# Altium integrated library Linear Technology Power Management System Supervisor, Monitor and Control.IntLib: 1611 symbols (part 99 of 100)
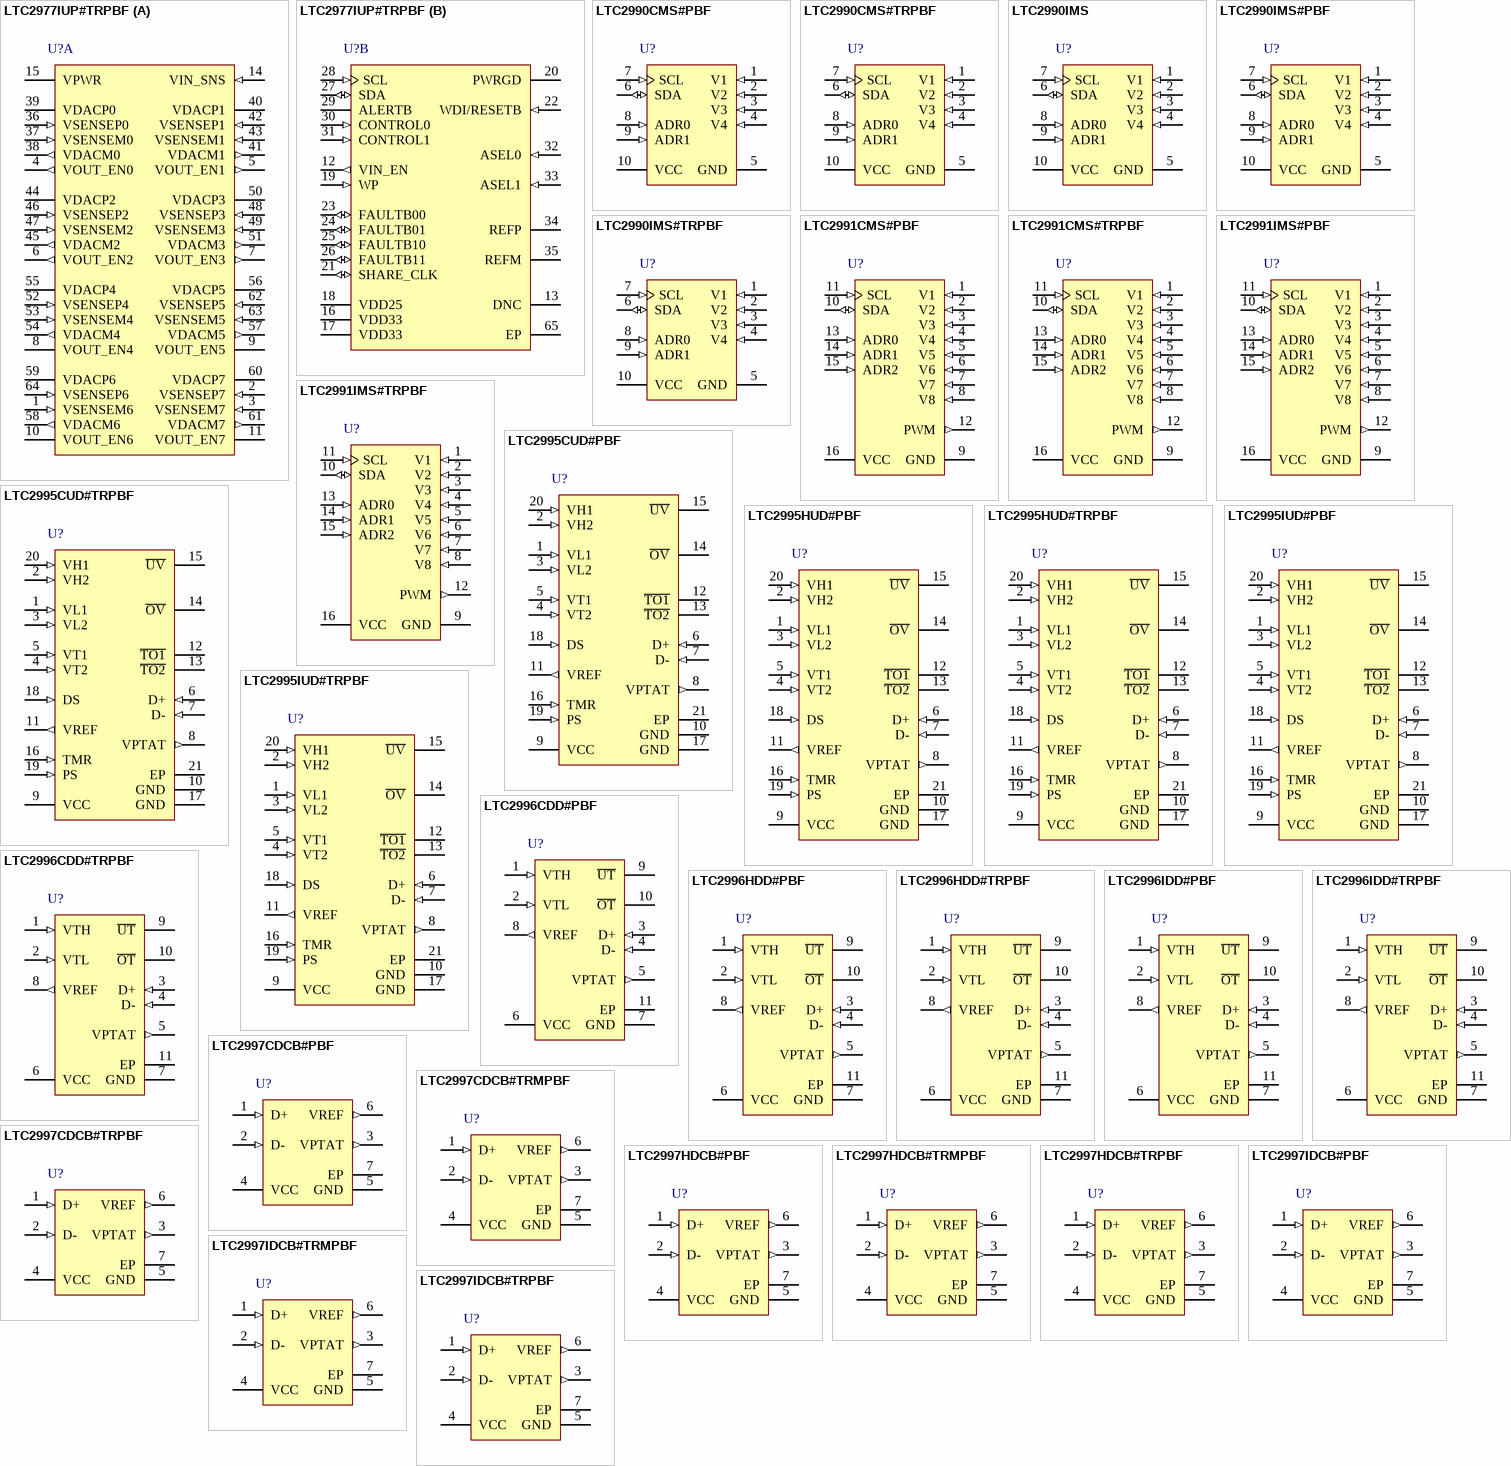
[diagram p143: symbols LTC2977IUP#TRPBF to LTC2997IDCB#TRPBF]

## LTC2995HUD#TRPBF
designator U?
Temperature Sensor and Dual Voltage Monitor with Alert Outputs, 20-pin QFN (UD-20), -40 to 125 degC, Pb-Free, Tape and Reel; Manufacturer: Linear Technology; PartNumber: LTC2995HUD#TRPBF; Number of Supplies(#): 2; PackageVersion: Rev. A, 06/2010; PackageReference: UD-20; PackageDescription: 20-Pin Plastic QFN, Body 3 x 3 mm, Pitch 0.4 mm; Supplier 1: Digi-Key; Supplier Part Number 1: LTC2995HUD#TRPBF-ND; Packing: Tape and Reel; RoHS: TRUE; Mounting Technology: Surface Mount; ComponentLink1Description: Manufacturer URL; ComponentLink1URL: http://www.linear.com/; ComponentLink2Description: Datasheet; ComponentLink2URL: http://cds.linear.com/docs/en/datasheet/2995f.pdf; ComponentLink3Description: Package Specification; ComponentLink3URL: http://cds.linear.com/docs/en/packaging/QFN_20_05-08-1720.pdf
footprint LT-UD-20_N (QFN, 20-Leads, Body 3.1x3.1mm, Pitch 0.4mm, Thermal Pad 1.65x1.65mm, IPC Medium Density)
footprint LT-UD-20_L (QFN, 20-Leads, Body 3.1x3.1mm, Pitch 0.4mm, Thermal Pad 1.65x1.65mm, IPC High Density)
footprint LT-UD-20_M (QFN, 20-Leads, Body 3.1x3.1mm, Pitch 0.4mm, Thermal Pad 1.65x1.65mm, IPC Low Density)
pins: 1 VL1 (in) "Voltage Low Inputs 1 and 2. When the voltage on either pin is above 0.5V, an overvoltage condition is triggered. Tie pin to GND if unused.", 2 VH2 (in) "Voltage High Inputs 1 and 2. When the voltage on either pin is below 0.5V, an undervoltage condition is triggered. Tie pin to VCC if unused.", 3 VL2 (in) "Voltage Low Inputs 1 and 2. When the voltage on either pin is above 0.5V, an overvoltage condition is triggered. Tie pin to GND if unused.", 4 VT2 (in) "Temperature Threshold 2. When VPTAT crosses the voltage on VT2 with a polarity set by the PS pin, T\O\2 is pulled low. Tie VT2 to VCC if unused.", 5 VT1 (in) "Temperature Threshold 1. When VPTAT crosses the voltage on VT1 with a polarity set by the PS pin, T\O\1\ is pulled low. Tie VT1 to GND if unused.", 6 D+ (in) "Diode Sense Current Source. D+ sources the remote diode sensing current. Connect D+ to the anode of the remote sensor device. It is recommended to connect a 470pF bypass capacitor between D+ and D-. Larger capacitors may (See Datasheet)", 7 D- (in) "Diode Sense Current Sink. Connect D- to the cathode of the remote sensor device. Tie D- to GND for single wire remote temperature measurement (see Applications Information) or internal temperature sensing.", 8 VPTAT (out) "Proportional to Absolute Temperature Voltage Output. The voltage on this pin is proportional to the selected sensor absolute temperature. An internal or external sensor is chosen with the DS pin. VPTAT can drive up t(See Datasheet)", 9 VCC (power) "Supply Voltage. Bypass this pin to GND with a 0.1uF (or greater) capacitor. VCC operating range is 2.25V to 5.5V.", 10 GND (power) "Device Ground", 11 VREF (out) "Voltage Reference Output. VREF provides a 1.8V reference voltage. VREF can drive up to +/-200uA of load current and up to 1000pF of capacitive load. For larger load capacitances insert 1kohm between VREF and the load to (See Datasheet)", 12 ~{TO1} (oc) "Temperature Logic Output 1. Open drain logic output that pulls to GND when VPTAT crosses the threshold voltage on pin VT1 with a polarity set by the PS pin (see Table 3 in Applications Information). When VPTAT crosses the (See Datasheet)", 13 ~{TO2} (oc) "Temperature Logic Output 2. Open drain logic output that pulls to GND when VPTAT crosses the threshold voltage on pin VT2 with a polarity set by the PS pin (see Table 3 in Applications Information). When VPTAT crosses the (See Datasheet)", 14 ~{OV} (oc) "Overvoltage Logic Output. Open drain logic output that pulls to GND when either the voltage at VL1 or VL2 is above 0.5V. Held low for a programmable delay time set by the capacitor connected to pin TMR. O\V\ has a weak 400 (See Datasheet)", 15 ~{UV} (oc) "Undervoltage Logic Output. Open drain logic output that pulls to GND when either the voltage at VH1 or VH2 is below 0.5V. Held low for an adjustable delay time set by the capacitor connected to pin TMR. UV has a weak 400 (See Datasheet)", 16 TMR (in) "Reset Delay Timer. Attach an external capacitor (CTMR) to GND to set the delay time until alerts on T\O\1\, T\O\2\, U\V\ and O\V\ are reset. Leaving the pin open generates a minimum delay of 500us. Capacitance on this pin (See Datasheet)", 17 GND (power) "Device Ground", 18 DS (in) "Diode Select Input. Three state pin that selects temperature sensor location. Tie DS to VCC to monitor the temperature of the internal diode or to GND to monitor the temperature of the external diode. When DS is left (See Datasheet)", 19 PS (in) "Polarity Select Input. Selects the polarity of temperature thresholds VT1 and VT2. Connect PS to VCC to configure VT1 as undertemperature and VT2 as overtemperature threshold. Leave PS unconnected to configure both VT1 and (See Datasheet)", 20 VH1 (in) "Voltage High Inputs 1 and 2. When the voltage on either pin is below 0.5V, an undervoltage condition is triggered. Tie pin to VCC if unused.", 21 EP (power) "Exposed pad may be left open or soldered to GND for better thermal coupling."

## LTC2995IUD#PBF
designator U?
Temperature Sensor and Dual Voltage Monitor with Alert Outputs, 20-pin QFN (UD-20), -40 to 85 degC, Pb-Free; Manufacturer: Linear Technology; PartNumber: LTC2995IUD#PBF; Number of Supplies(#): 2; PackageVersion: Rev. A, 06/2010; PackageReference: UD-20; PackageDescription: 20-Pin Plastic QFN, Body 3 x 3 mm, Pitch 0.4 mm; Supplier 1: Digi-Key; Supplier Part Number 1: LTC2995IUD#PBF-ND; Supplier 2: Farnell; Supplier Part Number 2: 2115940; Supplier 3: Newark; Supplier Part Number 3: 94T1241; RoHS: TRUE; Mounting Technology: Surface Mount; ComponentLink1Description: Manufacturer URL; ComponentLink1URL: http://www.linear.com/; ComponentLink2Description: Datasheet; ComponentLink2URL: http://cds.linear.com/docs/en/datasheet/2995f.pdf; ComponentLink3Description: Package Specification; ComponentLink3URL: http://cds.linear.com/docs/en/packaging/QFN_20_05-08-1720.pdf
footprint LT-UD-20_N (QFN, 20-Leads, Body 3.1x3.1mm, Pitch 0.4mm, Thermal Pad 1.65x1.65mm, IPC Medium Density)
footprint LT-UD-20_L (QFN, 20-Leads, Body 3.1x3.1mm, Pitch 0.4mm, Thermal Pad 1.65x1.65mm, IPC High Density)
footprint LT-UD-20_M (QFN, 20-Leads, Body 3.1x3.1mm, Pitch 0.4mm, Thermal Pad 1.65x1.65mm, IPC Low Density)
pins: 1 VL1 (in) "Voltage Low Inputs 1 and 2. When the voltage on either pin is above 0.5V, an overvoltage condition is triggered. Tie pin to GND if unused.", 2 VH2 (in) "Voltage High Inputs 1 and 2. When the voltage on either pin is below 0.5V, an undervoltage condition is triggered. Tie pin to VCC if unused.", 3 VL2 (in) "Voltage Low Inputs 1 and 2. When the voltage on either pin is above 0.5V, an overvoltage condition is triggered. Tie pin to GND if unused.", 4 VT2 (in) "Temperature Threshold 2. When VPTAT crosses the voltage on VT2 with a polarity set by the PS pin, T\O\2 is pulled low. Tie VT2 to VCC if unused.", 5 VT1 (in) "Temperature Threshold 1. When VPTAT crosses the voltage on VT1 with a polarity set by the PS pin, T\O\1\ is pulled low. Tie VT1 to GND if unused.", 6 D+ (in) "Diode Sense Current Source. D+ sources the remote diode sensing current. Connect D+ to the anode of the remote sensor device. It is recommended to connect a 470pF bypass capacitor between D+ and D-. Larger capacitors may (See Datasheet)", 7 D- (in) "Diode Sense Current Sink. Connect D- to the cathode of the remote sensor device. Tie D- to GND for single wire remote temperature measurement (see Applications Information) or internal temperature sensing.", 8 VPTAT (out) "Proportional to Absolute Temperature Voltage Output. The voltage on this pin is proportional to the selected sensor absolute temperature. An internal or external sensor is chosen with the DS pin. VPTAT can drive up t(See Datasheet)", 9 VCC (power) "Supply Voltage. Bypass this pin to GND with a 0.1uF (or greater) capacitor. VCC operating range is 2.25V to 5.5V.", 10 GND (power) "Device Ground", 11 VREF (out) "Voltage Reference Output. VREF provides a 1.8V reference voltage. VREF can drive up to +/-200uA of load current and up to 1000pF of capacitive load. For larger load capacitances insert 1kohm between VREF and the load to (See Datasheet)", 12 ~{TO1} (oc) "Temperature Logic Output 1. Open drain logic output that pulls to GND when VPTAT crosses the threshold voltage on pin VT1 with a polarity set by the PS pin (see Table 3 in Applications Information). When VPTAT crosses the (See Datasheet)", 13 ~{TO2} (oc) "Temperature Logic Output 2. Open drain logic output that pulls to GND when VPTAT crosses the threshold voltage on pin VT2 with a polarity set by the PS pin (see Table 3 in Applications Information). When VPTAT crosses the (See Datasheet)", 14 ~{OV} (oc) "Overvoltage Logic Output. Open drain logic output that pulls to GND when either the voltage at VL1 or VL2 is above 0.5V. Held low for a programmable delay time set by the capacitor connected to pin TMR. O\V\ has a weak 400 (See Datasheet)", 15 ~{UV} (oc) "Undervoltage Logic Output. Open drain logic output that pulls to GND when either the voltage at VH1 or VH2 is below 0.5V. Held low for an adjustable delay time set by the capacitor connected to pin TMR. UV has a weak 400 (See Datasheet)", 16 TMR (in) "Reset Delay Timer. Attach an external capacitor (CTMR) to GND to set the delay time until alerts on T\O\1\, T\O\2\, U\V\ and O\V\ are reset. Leaving the pin open generates a minimum delay of 500us. Capacitance on this pin (See Datasheet)", 17 GND (power) "Device Ground", 18 DS (in) "Diode Select Input. Three state pin that selects temperature sensor location. Tie DS to VCC to monitor the temperature of the internal diode or to GND to monitor the temperature of the external diode. When DS is left (See Datasheet)", 19 PS (in) "Polarity Select Input. Selects the polarity of temperature thresholds VT1 and VT2. Connect PS to VCC to configure VT1 as undertemperature and VT2 as overtemperature threshold. Leave PS unconnected to configure both VT1 and (See Datasheet)", 20 VH1 (in) "Voltage High Inputs 1 and 2. When the voltage on either pin is below 0.5V, an undervoltage condition is triggered. Tie pin to VCC if unused.", 21 EP (power) "Exposed pad may be left open or soldered to GND for better thermal coupling."

## LTC2995IUD#TRPBF
designator U?
Temperature Sensor and Dual Voltage Monitor with Alert Outputs, 20-pin QFN (UD-20), -40 to 85 degC, Pb-Free, Tape and Reel; Manufacturer: Linear Technology; PartNumber: LTC2995IUD#TRPBF; Number of Supplies(#): 2; PackageVersion: Rev. A, 06/2010; PackageReference: UD-20; PackageDescription: 20-Pin Plastic QFN, Body 3 x 3 mm, Pitch 0.4 mm; Supplier 1: Digi-Key; Supplier Part Number 1: LTC2995IUD#TRPBF-ND; Packing: Tape and Reel; RoHS: TRUE; Mounting Technology: Surface Mount; ComponentLink1Description: Manufacturer URL; ComponentLink1URL: http://www.linear.com/; ComponentLink2Description: Datasheet; ComponentLink2URL: http://cds.linear.com/docs/en/datasheet/2995f.pdf; ComponentLink3Description: Package Specification; ComponentLink3URL: http://cds.linear.com/docs/en/packaging/QFN_20_05-08-1720.pdf
footprint LT-UD-20_N (QFN, 20-Leads, Body 3.1x3.1mm, Pitch 0.4mm, Thermal Pad 1.65x1.65mm, IPC Medium Density)
footprint LT-UD-20_L (QFN, 20-Leads, Body 3.1x3.1mm, Pitch 0.4mm, Thermal Pad 1.65x1.65mm, IPC High Density)
footprint LT-UD-20_M (QFN, 20-Leads, Body 3.1x3.1mm, Pitch 0.4mm, Thermal Pad 1.65x1.65mm, IPC Low Density)
pins: 1 VL1 (in) "Voltage Low Inputs 1 and 2. When the voltage on either pin is above 0.5V, an overvoltage condition is triggered. Tie pin to GND if unused.", 2 VH2 (in) "Voltage High Inputs 1 and 2. When the voltage on either pin is below 0.5V, an undervoltage condition is triggered. Tie pin to VCC if unused.", 3 VL2 (in) "Voltage Low Inputs 1 and 2. When the voltage on either pin is above 0.5V, an overvoltage condition is triggered. Tie pin to GND if unused.", 4 VT2 (in) "Temperature Threshold 2. When VPTAT crosses the voltage on VT2 with a polarity set by the PS pin, T\O\2 is pulled low. Tie VT2 to VCC if unused.", 5 VT1 (in) "Temperature Threshold 1. When VPTAT crosses the voltage on VT1 with a polarity set by the PS pin, T\O\1\ is pulled low. Tie VT1 to GND if unused.", 6 D+ (in) "Diode Sense Current Source. D+ sources the remote diode sensing current. Connect D+ to the anode of the remote sensor device. It is recommended to connect a 470pF bypass capacitor between D+ and D-. Larger capacitors may (See Datasheet)", 7 D- (in) "Diode Sense Current Sink. Connect D- to the cathode of the remote sensor device. Tie D- to GND for single wire remote temperature measurement (see Applications Information) or internal temperature sensing.", 8 VPTAT (out) "Proportional to Absolute Temperature Voltage Output. The voltage on this pin is proportional to the selected sensor absolute temperature. An internal or external sensor is chosen with the DS pin. VPTAT can drive up t(See Datasheet)", 9 VCC (power) "Supply Voltage. Bypass this pin to GND with a 0.1uF (or greater) capacitor. VCC operating range is 2.25V to 5.5V.", 10 GND (power) "Device Ground", 11 VREF (out) "Voltage Reference Output. VREF provides a 1.8V reference voltage. VREF can drive up to +/-200uA of load current and up to 1000pF of capacitive load. For larger load capacitances insert 1kohm between VREF and the load to (See Datasheet)", 12 ~{TO1} (oc) "Temperature Logic Output 1. Open drain logic output that pulls to GND when VPTAT crosses the threshold voltage on pin VT1 with a polarity set by the PS pin (see Table 3 in Applications Information). When VPTAT crosses the (See Datasheet)", 13 ~{TO2} (oc) "Temperature Logic Output 2. Open drain logic output that pulls to GND when VPTAT crosses the threshold voltage on pin VT2 with a polarity set by the PS pin (see Table 3 in Applications Information). When VPTAT crosses the (See Datasheet)", 14 ~{OV} (oc) "Overvoltage Logic Output. Open drain logic output that pulls to GND when either the voltage at VL1 or VL2 is above 0.5V. Held low for a programmable delay time set by the capacitor connected to pin TMR. O\V\ has a weak 400 (See Datasheet)", 15 ~{UV} (oc) "Undervoltage Logic Output. Open drain logic output that pulls to GND when either the voltage at VH1 or VH2 is below 0.5V. Held low for an adjustable delay time set by the capacitor connected to pin TMR. UV has a weak 400 (See Datasheet)", 16 TMR (in) "Reset Delay Timer. Attach an external capacitor (CTMR) to GND to set the delay time until alerts on T\O\1\, T\O\2\, U\V\ and O\V\ are reset. Leaving the pin open generates a minimum delay of 500us. Capacitance on this pin (See Datasheet)", 17 GND (power) "Device Ground", 18 DS (in) "Diode Select Input. Three state pin that selects temperature sensor location. Tie DS to VCC to monitor the temperature of the internal diode or to GND to monitor the temperature of the external diode. When DS is left (See Datasheet)", 19 PS (in) "Polarity Select Input. Selects the polarity of temperature thresholds VT1 and VT2. Connect PS to VCC to configure VT1 as undertemperature and VT2 as overtemperature threshold. Leave PS unconnected to configure both VT1 and (See Datasheet)", 20 VH1 (in) "Voltage High Inputs 1 and 2. When the voltage on either pin is below 0.5V, an undervoltage condition is triggered. Tie pin to VCC if unused.", 21 EP (power) "Exposed pad may be left open or soldered to GND for better thermal coupling."

## LTC2996CDD#PBF
designator U?
Temperature Sensor with Alert Output, 10-pin SON (DD-10), 0 to 70 degC, Pb-Free; Manufacturer: Linear Technology; PartNumber: LTC2996CDD#PBF; Number of Supplies(#): 1; PackageVersion: Rev. C, 06/2010; PackageReference: DD-10; PackageDescription: 10-Pin Plastic DFN, Body 3 x 3 mm, Pitch 0.5 mm; Supplier 1: Digi-Key; Supplier Part Number 1: LTC2996CDD#PBF-ND; Supplier 2: Farnell; Supplier Part Number 2: 2148745; Supplier 3: Newark; Supplier Part Number 3: 27W9437; RoHS: TRUE; Mounting Technology: Surface Mount; Code_JEDEC: MO-229; ComponentLink1Description: Manufacturer URL; ComponentLink1URL: http://www.linear.com/; ComponentLink2Description: Datasheet; ComponentLink2URL: http://cds.linear.com/docs/en/datasheet/2996f.pdf; ComponentLink3Description: Package Specification; ComponentLink3URL: http://cds.linear.com/docs/en/packaging/DFN_10_05-08-1699.pdf
footprint LT-DD-10_V (SON, 10-Leads, Body 3x3mm, Pitch 0.5mm, Thermal Pad 2.38x1.65mm)
pins: 1 VTH (in) "Temperature Threshold High. When VPTAT is above the voltage on VTH, O\T\ is pulled low. Tie VTH to VCC if unused.", 2 VTL (in) "Temperature Threshold Low. When VPTAT is below the voltage on VTL, U\T\ is pulled low. Tie VTL to GND if unused.", 3 D+ (in) "Diode Sense Current Source. D+ sources the remote diode sensing current. Connect D+ to the anode of the remote sensor device. It is recommended to connect a 470pF bypass capacitor between D+ and D-. Larger capacitors may (See Datasheet)", 4 D- (in) "Diode Sense Current Sink. Connect D- to the cathode of the remote sensor device. Tie D- to GND for single wire remote temperature measurement (see Applications Information) or internal temperature sensing.", 5 VPTAT (out) "Proportional to Absolute Temperature Voltage Output. The voltage on this pin is proportional to the sensor absolute temperature. VPTAT can drive up to +/-200uA of load current and up to 1000pF of capacitive load. Fo(See Datasheet)", 6 VCC (power), 7 GND (power) "Device Ground", 8 VREF (out) "Voltage Reference Output. VREF provides a 1.8V reference voltage. VREF can drive up to +/-200uA of load current and up to 1000pF of capacitive load. For larger load capacitances, insert 1kohm between VREF and the load to (See Datasheet)", 9 ~{UT} (oc) "Undertemperature Logic Output. Open drain logic output that pulls to GND when VPTAT is below the threshold voltage on pin VTL. When VPTAT rises above the threshold voltage on pin VTL, an additional hysteresis of 20mV is (See Datasheet)", 10 ~{OT} (oc) "Overtemperature Logic Output. Open drain logic output that pulls to GND when VPTAT is above the threshold voltage on pin VTH. When VPTAT falls below the threshold voltage on pin VTH, an additional hysteresis of 20mV is (See Datasheet)", 11 EP (power) "Exposed pad may be left open or soldered to GND for better thermal coupling."

## LTC2996CDD#TRPBF
designator U?
Temperature Sensor with Alert Output, 10-pin SON (DD-10), 0 to 70 degC, Pb-Free, Tape and Reel; Manufacturer: Linear Technology; PartNumber: LTC2996CDD#TRPBF; Number of Supplies(#): 1; PackageVersion: Rev. C, 06/2010; PackageReference: DD-10; PackageDescription: 10-Pin Plastic DFN, Body 3 x 3 mm, Pitch 0.5 mm; Supplier 1: Digi-Key; Supplier Part Number 1: LTC2996CDD#TRPBF-ND; Supplier 2: Newark; Supplier Part Number 2: 27W9438; Packing: Tape and Reel; RoHS: TRUE; Mounting Technology: Surface Mount; Code_JEDEC: MO-229; ComponentLink1Description: Manufacturer URL; ComponentLink1URL: http://www.linear.com/; ComponentLink2Description: Datasheet; ComponentLink2URL: http://cds.linear.com/docs/en/datasheet/2996f.pdf; ComponentLink3Description: Package Specification; ComponentLink3URL: http://cds.linear.com/docs/en/packaging/DFN_10_05-08-1699.pdf
footprint LT-DD-10_V (SON, 10-Leads, Body 3x3mm, Pitch 0.5mm, Thermal Pad 2.38x1.65mm)
pins: 1 VTH (in) "Temperature Threshold High. When VPTAT is above the voltage on VTH, O\T\ is pulled low. Tie VTH to VCC if unused.", 2 VTL (in) "Temperature Threshold Low. When VPTAT is below the voltage on VTL, U\T\ is pulled low. Tie VTL to GND if unused.", 3 D+ (in) "Diode Sense Current Source. D+ sources the remote diode sensing current. Connect D+ to the anode of the remote sensor device. It is recommended to connect a 470pF bypass capacitor between D+ and D-. Larger capacitors may (See Datasheet)", 4 D- (in) "Diode Sense Current Sink. Connect D- to the cathode of the remote sensor device. Tie D- to GND for single wire remote temperature measurement (see Applications Information) or internal temperature sensing.", 5 VPTAT (out) "Proportional to Absolute Temperature Voltage Output. The voltage on this pin is proportional to the sensor absolute temperature. VPTAT can drive up to +/-200uA of load current and up to 1000pF of capacitive load. Fo(See Datasheet)", 6 VCC (power), 7 GND (power) "Device Ground", 8 VREF (out) "Voltage Reference Output. VREF provides a 1.8V reference voltage. VREF can drive up to +/-200uA of load current and up to 1000pF of capacitive load. For larger load capacitances, insert 1kohm between VREF and the load to (See Datasheet)", 9 ~{UT} (oc) "Undertemperature Logic Output. Open drain logic output that pulls to GND when VPTAT is below the threshold voltage on pin VTL. When VPTAT rises above the threshold voltage on pin VTL, an additional hysteresis of 20mV is (See Datasheet)", 10 ~{OT} (oc) "Overtemperature Logic Output. Open drain logic output that pulls to GND when VPTAT is above the threshold voltage on pin VTH. When VPTAT falls below the threshold voltage on pin VTH, an additional hysteresis of 20mV is (See Datasheet)", 11 EP (power) "Exposed pad may be left open or soldered to GND for better thermal coupling."

## LTC2996HDD#PBF
designator U?
Temperature Sensor with Alert Output, 10-pin SON (DD-10), -40 to 125 degC, Pb-Free; Manufacturer: Linear Technology; PartNumber: LTC2996HDD#PBF; Number of Supplies(#): 1; PackageVersion: Rev. C, 06/2010; PackageReference: DD-10; PackageDescription: 10-Pin Plastic DFN, Body 3 x 3 mm, Pitch 0.5 mm; Supplier 1: Digi-Key; Supplier Part Number 1: LTC2996HDD#PBF-ND; Supplier 2: Farnell; Supplier Part Number 2: 2148746; Supplier 3: Newark; Supplier Part Number 3: 27W9439; RoHS: TRUE; Mounting Technology: Surface Mount; Code_JEDEC: MO-229; ComponentLink1Description: Manufacturer URL; ComponentLink1URL: http://www.linear.com/; ComponentLink2Description: Datasheet; ComponentLink2URL: http://cds.linear.com/docs/en/datasheet/2996f.pdf; ComponentLink3Description: Package Specification; ComponentLink3URL: http://cds.linear.com/docs/en/packaging/DFN_10_05-08-1699.pdf
footprint LT-DD-10_V (SON, 10-Leads, Body 3x3mm, Pitch 0.5mm, Thermal Pad 2.38x1.65mm)
pins: 1 VTH (in) "Temperature Threshold High. When VPTAT is above the voltage on VTH, O\T\ is pulled low. Tie VTH to VCC if unused.", 2 VTL (in) "Temperature Threshold Low. When VPTAT is below the voltage on VTL, U\T\ is pulled low. Tie VTL to GND if unused.", 3 D+ (in) "Diode Sense Current Source. D+ sources the remote diode sensing current. Connect D+ to the anode of the remote sensor device. It is recommended to connect a 470pF bypass capacitor between D+ and D-. Larger capacitors may (See Datasheet)", 4 D- (in) "Diode Sense Current Sink. Connect D- to the cathode of the remote sensor device. Tie D- to GND for single wire remote temperature measurement (see Applications Information) or internal temperature sensing.", 5 VPTAT (out) "Proportional to Absolute Temperature Voltage Output. The voltage on this pin is proportional to the sensor absolute temperature. VPTAT can drive up to +/-200uA of load current and up to 1000pF of capacitive load. Fo(See Datasheet)", 6 VCC (power), 7 GND (power) "Device Ground", 8 VREF (out) "Voltage Reference Output. VREF provides a 1.8V reference voltage. VREF can drive up to +/-200uA of load current and up to 1000pF of capacitive load. For larger load capacitances, insert 1kohm between VREF and the load to (See Datasheet)", 9 ~{UT} (oc) "Undertemperature Logic Output. Open drain logic output that pulls to GND when VPTAT is below the threshold voltage on pin VTL. When VPTAT rises above the threshold voltage on pin VTL, an additional hysteresis of 20mV is (See Datasheet)", 10 ~{OT} (oc) "Overtemperature Logic Output. Open drain logic output that pulls to GND when VPTAT is above the threshold voltage on pin VTH. When VPTAT falls below the threshold voltage on pin VTH, an additional hysteresis of 20mV is (See Datasheet)", 11 EP (power) "Exposed pad may be left open or soldered to GND for better thermal coupling."

## LTC2996HDD#TRPBF
designator U?
Temperature Sensor with Alert Output, 10-pin SON (DD-10), -40 to 125 degC, Pb-Free, Tape and Reel; Manufacturer: Linear Technology; PartNumber: LTC2996HDD#TRPBF; Number of Supplies(#): 1; PackageVersion: Rev. C, 06/2010; PackageReference: DD-10; PackageDescription: 10-Pin Plastic DFN, Body 3 x 3 mm, Pitch 0.5 mm; Supplier 1: Digi-Key; Supplier Part Number 1: LTC2996HDD#TRPBF-ND; Supplier 2: Newark; Supplier Part Number 2: 27W9440; Packing: Tape and Reel; RoHS: TRUE; Mounting Technology: Surface Mount; Code_JEDEC: MO-229; ComponentLink1Description: Manufacturer URL; ComponentLink1URL: http://www.linear.com/; ComponentLink2Description: Datasheet; ComponentLink2URL: http://cds.linear.com/docs/en/datasheet/2996f.pdf; ComponentLink3Description: Package Specification; ComponentLink3URL: http://cds.linear.com/docs/en/packaging/DFN_10_05-08-1699.pdf
footprint LT-DD-10_V (SON, 10-Leads, Body 3x3mm, Pitch 0.5mm, Thermal Pad 2.38x1.65mm)
pins: 1 VTH (in) "Temperature Threshold High. When VPTAT is above the voltage on VTH, O\T\ is pulled low. Tie VTH to VCC if unused.", 2 VTL (in) "Temperature Threshold Low. When VPTAT is below the voltage on VTL, U\T\ is pulled low. Tie VTL to GND if unused.", 3 D+ (in) "Diode Sense Current Source. D+ sources the remote diode sensing current. Connect D+ to the anode of the remote sensor device. It is recommended to connect a 470pF bypass capacitor between D+ and D-. Larger capacitors may (See Datasheet)", 4 D- (in) "Diode Sense Current Sink. Connect D- to the cathode of the remote sensor device. Tie D- to GND for single wire remote temperature measurement (see Applications Information) or internal temperature sensing.", 5 VPTAT (out) "Proportional to Absolute Temperature Voltage Output. The voltage on this pin is proportional to the sensor absolute temperature. VPTAT can drive up to +/-200uA of load current and up to 1000pF of capacitive load. Fo(See Datasheet)", 6 VCC (power), 7 GND (power) "Device Ground", 8 VREF (out) "Voltage Reference Output. VREF provides a 1.8V reference voltage. VREF can drive up to +/-200uA of load current and up to 1000pF of capacitive load. For larger load capacitances, insert 1kohm between VREF and the load to (See Datasheet)", 9 ~{UT} (oc) "Undertemperature Logic Output. Open drain logic output that pulls to GND when VPTAT is below the threshold voltage on pin VTL. When VPTAT rises above the threshold voltage on pin VTL, an additional hysteresis of 20mV is (See Datasheet)", 10 ~{OT} (oc) "Overtemperature Logic Output. Open drain logic output that pulls to GND when VPTAT is above the threshold voltage on pin VTH. When VPTAT falls below the threshold voltage on pin VTH, an additional hysteresis of 20mV is (See Datasheet)", 11 EP (power) "Exposed pad may be left open or soldered to GND for better thermal coupling."

## LTC2996IDD#PBF
designator U?
Temperature Sensor with Alert Output, 10-pin SON (DD-10), -40 to 85 degC, Pb-Free; Manufacturer: Linear Technology; PartNumber: LTC2996IDD#PBF; Number of Supplies(#): 1; PackageVersion: Rev. C, 06/2010; PackageReference: DD-10; PackageDescription: 10-Pin Plastic DFN, Body 3 x 3 mm, Pitch 0.5 mm; Supplier 1: Digi-Key; Supplier Part Number 1: LTC2996IDD#PBF-ND; Supplier 2: Farnell; Supplier Part Number 2: 2148747; Supplier 3: Newark; Supplier Part Number 3: 27W9441; RoHS: TRUE; Mounting Technology: Surface Mount; Code_JEDEC: MO-229; ComponentLink1Description: Manufacturer URL; ComponentLink1URL: http://www.linear.com/; ComponentLink2Description: Datasheet; ComponentLink2URL: http://cds.linear.com/docs/en/datasheet/2996f.pdf; ComponentLink3Description: Package Specification; ComponentLink3URL: http://cds.linear.com/docs/en/packaging/DFN_10_05-08-1699.pdf
footprint LT-DD-10_V (SON, 10-Leads, Body 3x3mm, Pitch 0.5mm, Thermal Pad 2.38x1.65mm)
pins: 1 VTH (in) "Temperature Threshold High. When VPTAT is above the voltage on VTH, O\T\ is pulled low. Tie VTH to VCC if unused.", 2 VTL (in) "Temperature Threshold Low. When VPTAT is below the voltage on VTL, U\T\ is pulled low. Tie VTL to GND if unused.", 3 D+ (in) "Diode Sense Current Source. D+ sources the remote diode sensing current. Connect D+ to the anode of the remote sensor device. It is recommended to connect a 470pF bypass capacitor between D+ and D-. Larger capacitors may (See Datasheet)", 4 D- (in) "Diode Sense Current Sink. Connect D- to the cathode of the remote sensor device. Tie D- to GND for single wire remote temperature measurement (see Applications Information) or internal temperature sensing.", 5 VPTAT (out) "Proportional to Absolute Temperature Voltage Output. The voltage on this pin is proportional to the sensor absolute temperature. VPTAT can drive up to +/-200uA of load current and up to 1000pF of capacitive load. Fo(See Datasheet)", 6 VCC (power), 7 GND (power) "Device Ground", 8 VREF (out) "Voltage Reference Output. VREF provides a 1.8V reference voltage. VREF can drive up to +/-200uA of load current and up to 1000pF of capacitive load. For larger load capacitances, insert 1kohm between VREF and the load to (See Datasheet)", 9 ~{UT} (oc) "Undertemperature Logic Output. Open drain logic output that pulls to GND when VPTAT is below the threshold voltage on pin VTL. When VPTAT rises above the threshold voltage on pin VTL, an additional hysteresis of 20mV is (See Datasheet)", 10 ~{OT} (oc) "Overtemperature Logic Output. Open drain logic output that pulls to GND when VPTAT is above the threshold voltage on pin VTH. When VPTAT falls below the threshold voltage on pin VTH, an additional hysteresis of 20mV is (See Datasheet)", 11 EP (power) "Exposed pad may be left open or soldered to GND for better thermal coupling."

## LTC2996IDD#TRPBF
designator U?
Temperature Sensor with Alert Output, 10-pin SON (DD-10), -40 to 85 degC, Pb-Free, Tape and Reel; Manufacturer: Linear Technology; PartNumber: LTC2996IDD#TRPBF; Number of Supplies(#): 1; PackageVersion: Rev. C, 06/2010; PackageReference: DD-10; PackageDescription: 10-Pin Plastic DFN, Body 3 x 3 mm, Pitch 0.5 mm; Supplier 1: Digi-Key; Supplier Part Number 1: LTC2996IDD#TRPBF-ND; Supplier 2: Newark; Supplier Part Number 2: 27W9442; Packing: Tape and Reel; RoHS: TRUE; Mounting Technology: Surface Mount; Code_JEDEC: MO-229; ComponentLink1Description: Manufacturer URL; ComponentLink1URL: http://www.linear.com/; ComponentLink2Description: Datasheet; ComponentLink2URL: http://cds.linear.com/docs/en/datasheet/2996f.pdf; ComponentLink3Description: Package Specification; ComponentLink3URL: http://cds.linear.com/docs/en/packaging/DFN_10_05-08-1699.pdf
footprint LT-DD-10_V (SON, 10-Leads, Body 3x3mm, Pitch 0.5mm, Thermal Pad 2.38x1.65mm)
pins: 1 VTH (in) "Temperature Threshold High. When VPTAT is above the voltage on VTH, O\T\ is pulled low. Tie VTH to VCC if unused.", 2 VTL (in) "Temperature Threshold Low. When VPTAT is below the voltage on VTL, U\T\ is pulled low. Tie VTL to GND if unused.", 3 D+ (in) "Diode Sense Current Source. D+ sources the remote diode sensing current. Connect D+ to the anode of the remote sensor device. It is recommended to connect a 470pF bypass capacitor between D+ and D-. Larger capacitors may (See Datasheet)", 4 D- (in) "Diode Sense Current Sink. Connect D- to the cathode of the remote sensor device. Tie D- to GND for single wire remote temperature measurement (see Applications Information) or internal temperature sensing.", 5 VPTAT (out) "Proportional to Absolute Temperature Voltage Output. The voltage on this pin is proportional to the sensor absolute temperature. VPTAT can drive up to +/-200uA of load current and up to 1000pF of capacitive load. Fo(See Datasheet)", 6 VCC (power), 7 GND (power) "Device Ground", 8 VREF (out) "Voltage Reference Output. VREF provides a 1.8V reference voltage. VREF can drive up to +/-200uA of load current and up to 1000pF of capacitive load. For larger load capacitances, insert 1kohm between VREF and the load to (See Datasheet)", 9 ~{UT} (oc) "Undertemperature Logic Output. Open drain logic output that pulls to GND when VPTAT is below the threshold voltage on pin VTL. When VPTAT rises above the threshold voltage on pin VTL, an additional hysteresis of 20mV is (See Datasheet)", 10 ~{OT} (oc) "Overtemperature Logic Output. Open drain logic output that pulls to GND when VPTAT is above the threshold voltage on pin VTH. When VPTAT falls below the threshold voltage on pin VTH, an additional hysteresis of 20mV is (See Datasheet)", 11 EP (power) "Exposed pad may be left open or soldered to GND for better thermal coupling."

## LTC2997CDCB#PBF
designator U?
Remote / Internal Temperature Sensor, 6-pin SON (DCB-6), 0 to 70 degC, Pb-Free; Manufacturer: Linear Technology; PartNumber: LTC2997CDCB#PBF; Number of Supplies(#): 1; DatasheetVersion: Rev. A; PackageVersion: Rev. A, 03/2011; PackageReference: DCB-6; PackageDescription: 6-Pin Plastic DFN, Body 2 x 3 mm, Pitch 0.5 mm; Supplier 1: Farnell; Supplier Part Number 1: 2009073; Supplier 2: Newark; Supplier Part Number 2: 78T3129; RoHS: TRUE; Mounting Technology: Surface Mount; Code_JEDEC: MO-229; ComponentLink1Description: Manufacturer URL; ComponentLink1URL: http://www.linear.com/; ComponentLink2Description: Datasheet; ComponentLink2URL: http://cds.linear.com/docs/en/datasheet/2997fa.pdf; ComponentLink3Description: Package Specification; ComponentLink3URL: http://www.linear.com/docs/en/packaging/(DCB6)%20DFN%2005-08-1715%20Rev%20A.pdf
footprint LT-DCB-6_V (SON, 6-Leads, Body 3x2mm, Pitch 0.5mm, Thermal Pad 1.65x1.35mm)
pins: 1 D+ (in) "Diode Sense Current Source.", 2 D- (in) "Diode Sense Current Sink.", 3 VPTAT (out) "VPTAT Voltage Output.", 4 VCC (power) "Supply Voltage. Bypass this pin to GND with a 0.1uF (or greater) capacitor. VCC operating range is 2.5V to 5.5V.", 5 GND (power) "Device Ground.", 6 VREF (out) "Voltage Reference Output.", 7 EP "Exposed pad may be left open or soldered to GND for better thermal coupling."

## LTC2997CDCB#TRMPBF
designator U?
Remote / Internal Temperature Sensor, 6-pin SON (DCB-6), 0 to 70 degC, Pb-Free, Mini Tape and Reel; Manufacturer: Linear Technology; PartNumber: LTC2997CDCB#TRMPBF; Number of Supplies(#): 1; DatasheetVersion: Rev. A; PackageVersion: Rev. A, 03/2011; PackageReference: DCB-6; PackageDescription: 6-Pin Plastic DFN, Body 2 x 3 mm, Pitch 0.5 mm; Supplier 1: Digi-Key; Supplier Part Number 1: LTC2997CDCB#TRMPBFTR-ND; Supplier 2: Digi-Key; Supplier Part Number 2: LTC2997CDCB#TRMPBFCT-ND; Supplier 3: Digi-Key; Supplier Part Number 3: LTC2997CDCB#TRMPBFDKR-ND; Supplier 4: Newark; Supplier Part Number 4: 59T5579; Packing: Mini Tape and Reel; RoHS: TRUE; Mounting Technology: Surface Mount; Code_JEDEC: MO-229; ComponentLink1Description: Manufacturer URL; ComponentLink1URL: http://www.linear.com/; ComponentLink2Description: Datasheet; ComponentLink2URL: http://cds.linear.com/docs/en/datasheet/2997fa.pdf; ComponentLink3Description: Package Specification; ComponentLink3URL: http://www.linear.com/docs/en/packaging/(DCB6)%20DFN%2005-08-1715%20Rev%20A.pdf
footprint LT-DCB-6_V (SON, 6-Leads, Body 3x2mm, Pitch 0.5mm, Thermal Pad 1.65x1.35mm)
pins: 1 D+ (in) "Diode Sense Current Source.", 2 D- (in) "Diode Sense Current Sink.", 3 VPTAT (out) "VPTAT Voltage Output.", 4 VCC (power) "Supply Voltage. Bypass this pin to GND with a 0.1uF (or greater) capacitor. VCC operating range is 2.5V to 5.5V.", 5 GND (power) "Device Ground.", 6 VREF (out) "Voltage Reference Output.", 7 EP "Exposed pad may be left open or soldered to GND for better thermal coupling."

## LTC2997CDCB#TRPBF
designator U?
Remote / Internal Temperature Sensor, 6-pin SON (DCB-6), 0 to 70 degC, Pb-Free, Tape and Reel; Manufacturer: Linear Technology; PartNumber: LTC2997CDCB#TRPBF; Number of Supplies(#): 1; DatasheetVersion: Rev. A; PackageVersion: Rev. A, 03/2011; PackageReference: DCB-6; PackageDescription: 6-Pin Plastic DFN, Body 2 x 3 mm, Pitch 0.5 mm; Supplier 1: Digi-Key; Supplier Part Number 1: LTC2997CDCB#TRPBF-ND; Packing: Tape and Reel; RoHS: TRUE; Mounting Technology: Surface Mount; Code_JEDEC: MO-229; ComponentLink1Description: Manufacturer URL; ComponentLink1URL: http://www.linear.com/; ComponentLink2Description: Datasheet; ComponentLink2URL: http://cds.linear.com/docs/en/datasheet/2997fa.pdf; ComponentLink3Description: Package Specification; ComponentLink3URL: http://www.linear.com/docs/en/packaging/(DCB6)%20DFN%2005-08-1715%20Rev%20A.pdf
footprint LT-DCB-6_V (SON, 6-Leads, Body 3x2mm, Pitch 0.5mm, Thermal Pad 1.65x1.35mm)
pins: 1 D+ (in) "Diode Sense Current Source.", 2 D- (in) "Diode Sense Current Sink.", 3 VPTAT (out) "VPTAT Voltage Output.", 4 VCC (power) "Supply Voltage. Bypass this pin to GND with a 0.1uF (or greater) capacitor. VCC operating range is 2.5V to 5.5V.", 5 GND (power) "Device Ground.", 6 VREF (out) "Voltage Reference Output.", 7 EP "Exposed pad may be left open or soldered to GND for better thermal coupling."

## LTC2997HDCB#PBF
designator U?
Remote / Internal Temperature Sensor, 6-pin SON (DCB-6), -40 to 125 degC, Pb-Free; Manufacturer: Linear Technology; PartNumber: LTC2997HDCB#PBF; Number of Supplies(#): 1; DatasheetVersion: Rev. A; PackageVersion: Rev. A, 03/2011; PackageReference: DCB-6; PackageDescription: 6-Pin Plastic DFN, Body 2 x 3 mm, Pitch 0.5 mm; RoHS: TRUE; Mounting Technology: Surface Mount; Code_JEDEC: MO-229; ComponentLink1Description: Manufacturer URL; ComponentLink1URL: http://www.linear.com/; ComponentLink2Description: Datasheet; ComponentLink2URL: http://cds.linear.com/docs/en/datasheet/2997fa.pdf; ComponentLink3Description: Package Specification; ComponentLink3URL: http://www.linear.com/docs/en/packaging/(DCB6)%20DFN%2005-08-1715%20Rev%20A.pdf
footprint LT-DCB-6_V (SON, 6-Leads, Body 3x2mm, Pitch 0.5mm, Thermal Pad 1.65x1.35mm)
pins: 1 D+ (in) "Diode Sense Current Source.", 2 D- (in) "Diode Sense Current Sink.", 3 VPTAT (out) "VPTAT Voltage Output.", 4 VCC (power) "Supply Voltage. Bypass this pin to GND with a 0.1uF (or greater) capacitor. VCC operating range is 2.5V to 5.5V.", 5 GND (power) "Device Ground.", 6 VREF (out) "Voltage Reference Output.", 7 EP "Exposed pad may be left open or soldered to GND for better thermal coupling."

## LTC2997HDCB#TRMPBF
designator U?
Remote / Internal Temperature Sensor, 6-pin SON (DCB-6), -40 to 125 degC, Pb-Free, Mini Tape and Reel; Manufacturer: Linear Technology; PartNumber: LTC2997HDCB#TRMPBF; Number of Supplies(#): 1; DatasheetVersion: Rev. A; PackageVersion: Rev. A, 03/2011; PackageReference: DCB-6; PackageDescription: 6-Pin Plastic DFN, Body 2 x 3 mm, Pitch 0.5 mm; Supplier 1: Digi-Key; Supplier Part Number 1: LTC2997HDCB#TRMPBFTR-ND; Supplier 2: Digi-Key; Supplier Part Number 2: LTC2997HDCB#TRMPBFCT-ND; Supplier 3: Digi-Key; Supplier Part Number 3: LTC2997HDCB#TRMPBFDKR-ND; Packing: Mini Tape and Reel; RoHS: TRUE; Mounting Technology: Surface Mount; Code_JEDEC: MO-229; ComponentLink1Description: Manufacturer URL; ComponentLink1URL: http://www.linear.com/; ComponentLink2Description: Datasheet; ComponentLink2URL: http://cds.linear.com/docs/en/datasheet/2997fa.pdf; ComponentLink3Description: Package Specification; ComponentLink3URL: http://www.linear.com/docs/en/packaging/(DCB6)%20DFN%2005-08-1715%20Rev%20A.pdf
footprint LT-DCB-6_V (SON, 6-Leads, Body 3x2mm, Pitch 0.5mm, Thermal Pad 1.65x1.35mm)
pins: 1 D+ (in) "Diode Sense Current Source.", 2 D- (in) "Diode Sense Current Sink.", 3 VPTAT (out) "VPTAT Voltage Output.", 4 VCC (power) "Supply Voltage. Bypass this pin to GND with a 0.1uF (or greater) capacitor. VCC operating range is 2.5V to 5.5V.", 5 GND (power) "Device Ground.", 6 VREF (out) "Voltage Reference Output.", 7 EP "Exposed pad may be left open or soldered to GND for better thermal coupling."

## LTC2997HDCB#TRPBF
designator U?
Remote / Internal Temperature Sensor, 6-pin SON (DCB-6), -40 to 125 degC, Pb-Free, Tape and Reel; Manufacturer: Linear Technology; PartNumber: LTC2997HDCB#TRPBF; Number of Supplies(#): 1; DatasheetVersion: Rev. A; PackageVersion: Rev. A, 03/2011; PackageReference: DCB-6; PackageDescription: 6-Pin Plastic DFN, Body 2 x 3 mm, Pitch 0.5 mm; Supplier 1: Digi-Key; Supplier Part Number 1: LTC2997HDCB#TRPBF-ND; Packing: Tape and Reel; RoHS: TRUE; Mounting Technology: Surface Mount; Code_JEDEC: MO-229; ComponentLink1Description: Manufacturer URL; ComponentLink1URL: http://www.linear.com/; ComponentLink2Description: Datasheet; ComponentLink2URL: http://cds.linear.com/docs/en/datasheet/2997fa.pdf; ComponentLink3Description: Package Specification; ComponentLink3URL: http://www.linear.com/docs/en/packaging/(DCB6)%20DFN%2005-08-1715%20Rev%20A.pdf
footprint LT-DCB-6_V (SON, 6-Leads, Body 3x2mm, Pitch 0.5mm, Thermal Pad 1.65x1.35mm)
pins: 1 D+ (in) "Diode Sense Current Source.", 2 D- (in) "Diode Sense Current Sink.", 3 VPTAT (out) "VPTAT Voltage Output.", 4 VCC (power) "Supply Voltage. Bypass this pin to GND with a 0.1uF (or greater) capacitor. VCC operating range is 2.5V to 5.5V.", 5 GND (power) "Device Ground.", 6 VREF (out) "Voltage Reference Output.", 7 EP "Exposed pad may be left open or soldered to GND for better thermal coupling."

## LTC2997IDCB#PBF
designator U?
Remote / Internal Temperature Sensor, 6-pin SON (DCB-6), -40 to 85 degC, Pb-Free; Manufacturer: Linear Technology; PartNumber: LTC2997IDCB#PBF; Number of Supplies(#): 1; DatasheetVersion: Rev. A; PackageVersion: Rev. A, 03/2011; PackageReference: DCB-6; PackageDescription: 6-Pin Plastic DFN, Body 2 x 3 mm, Pitch 0.5 mm; Supplier 1: Newark; Supplier Part Number 1: 78T3131; RoHS: TRUE; Mounting Technology: Surface Mount; Code_JEDEC: MO-229; ComponentLink1Description: Manufacturer URL; ComponentLink1URL: http://www.linear.com/; ComponentLink2Description: Datasheet; ComponentLink2URL: http://cds.linear.com/docs/en/datasheet/2997fa.pdf; ComponentLink3Description: Package Specification; ComponentLink3URL: http://www.linear.com/docs/en/packaging/(DCB6)%20DFN%2005-08-1715%20Rev%20A.pdf
footprint LT-DCB-6_V (SON, 6-Leads, Body 3x2mm, Pitch 0.5mm, Thermal Pad 1.65x1.35mm)
pins: 1 D+ (in) "Diode Sense Current Source.", 2 D- (in) "Diode Sense Current Sink.", 3 VPTAT (out) "VPTAT Voltage Output.", 4 VCC (power) "Supply Voltage. Bypass this pin to GND with a 0.1uF (or greater) capacitor. VCC operating range is 2.5V to 5.5V.", 5 GND (power) "Device Ground.", 6 VREF (out) "Voltage Reference Output.", 7 EP "Exposed pad may be left open or soldered to GND for better thermal coupling."

## LTC2997IDCB#TRMPBF
designator U?
Remote / Internal Temperature Sensor, 6-pin SON (DCB-6), -40 to 85 degC, Pb-Free, Mini Tape and Reel; Manufacturer: Linear Technology; PartNumber: LTC2997IDCB#TRMPBF; Number of Supplies(#): 1; DatasheetVersion: Rev. A; PackageVersion: Rev. A, 03/2011; PackageReference: DCB-6; PackageDescription: 6-Pin Plastic DFN, Body 2 x 3 mm, Pitch 0.5 mm; Supplier 1: Digi-Key; Supplier Part Number 1: LTC2997IDCB#TRMPBFTR-ND; Supplier 2: Digi-Key; Supplier Part Number 2: LTC2997IDCB#TRMPBFCT-ND; Supplier 3: Digi-Key; Supplier Part Number 3: LTC2997IDCB#TRMPBFDKR-ND; Supplier 4: Newark; Supplier Part Number 4: 59T5583; Packing: Mini Tape and Reel; RoHS: TRUE; Mounting Technology: Surface Mount; Code_JEDEC: MO-229; ComponentLink1Description: Manufacturer URL; ComponentLink1URL: http://www.linear.com/; ComponentLink2Description: Datasheet; ComponentLink2URL: http://cds.linear.com/docs/en/datasheet/2997fa.pdf; ComponentLink3Description: Package Specification; ComponentLink3URL: http://www.linear.com/docs/en/packaging/(DCB6)%20DFN%2005-08-1715%20Rev%20A.pdf
footprint LT-DCB-6_V (SON, 6-Leads, Body 3x2mm, Pitch 0.5mm, Thermal Pad 1.65x1.35mm)
pins: 1 D+ (in) "Diode Sense Current Source.", 2 D- (in) "Diode Sense Current Sink.", 3 VPTAT (out) "VPTAT Voltage Output.", 4 VCC (power) "Supply Voltage. Bypass this pin to GND with a 0.1uF (or greater) capacitor. VCC operating range is 2.5V to 5.5V.", 5 GND (power) "Device Ground.", 6 VREF (out) "Voltage Reference Output.", 7 EP "Exposed pad may be left open or soldered to GND for better thermal coupling."

## LTC2997IDCB#TRPBF
designator U?
Remote / Internal Temperature Sensor, 6-pin SON (DCB-6), -40 to 85 degC, Pb-Free, Tape and Reel; Manufacturer: Linear Technology; PartNumber: LTC2997IDCB#TRPBF; Number of Supplies(#): 1; DatasheetVersion: Rev. A; PackageVersion: Rev. A, 03/2011; PackageReference: DCB-6; PackageDescription: 6-Pin Plastic DFN, Body 2 x 3 mm, Pitch 0.5 mm; Supplier 1: Digi-Key; Supplier Part Number 1: LTC2997IDCB#TRPBF-ND; Packing: Tape and Reel; RoHS: TRUE; Mounting Technology: Surface Mount; Code_JEDEC: MO-229; ComponentLink1Description: Manufacturer URL; ComponentLink1URL: http://www.linear.com/; ComponentLink2Description: Datasheet; ComponentLink2URL: http://cds.linear.com/docs/en/datasheet/2997fa.pdf; ComponentLink3Description: Package Specification; ComponentLink3URL: http://www.linear.com/docs/en/packaging/(DCB6)%20DFN%2005-08-1715%20Rev%20A.pdf
footprint LT-DCB-6_V (SON, 6-Leads, Body 3x2mm, Pitch 0.5mm, Thermal Pad 1.65x1.35mm)
pins: 1 D+ (in) "Diode Sense Current Source.", 2 D- (in) "Diode Sense Current Sink.", 3 VPTAT (out) "VPTAT Voltage Output.", 4 VCC (power) "Supply Voltage. Bypass this pin to GND with a 0.1uF (or greater) capacitor. VCC operating range is 2.5V to 5.5V.", 5 GND (power) "Device Ground.", 6 VREF (out) "Voltage Reference Output.", 7 EP "Exposed pad may be left open or soldered to GND for better thermal coupling."

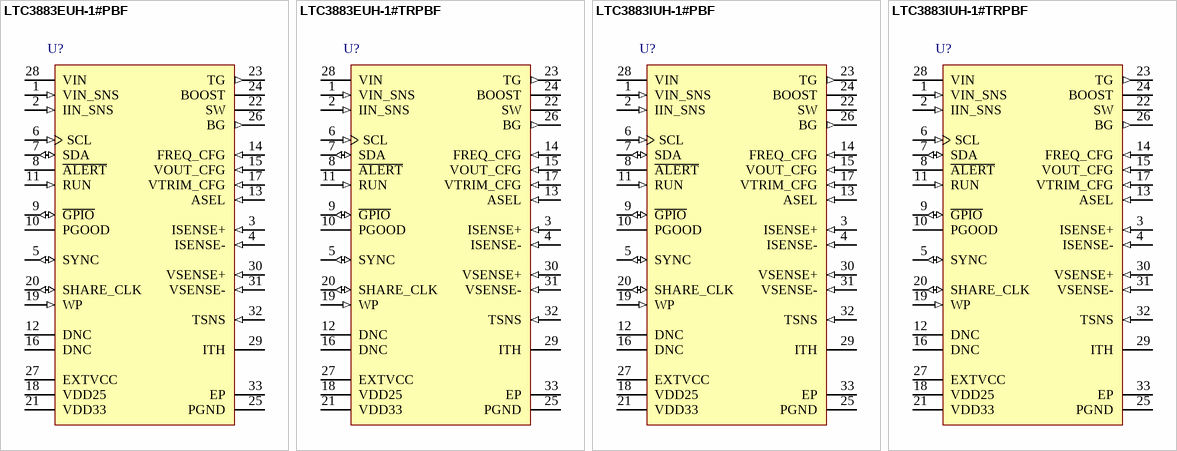
[diagram p45: symbols LTC3883EUH-1#PBF to LTC3883IUH-1#TRPBF]